# Altium schematic symbol library CD4043BD.SchLib: 2 symbols
Pins are listed as number, name and electrical type; pins without a type are passive.

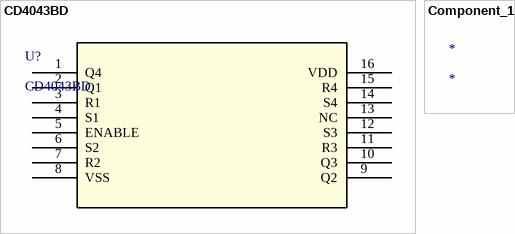
[diagram p0: symbols CD4043BD to Component_1]

## CD4043BD
designator U?
CMOS Quad NOR R/S Latch with 3-State Outputs 16-SOIC -55 to 125; Manufacturer_Name: Texas Instruments; Copyright: Copyright (C) 2026 Ultra Librarian. All rights reserved.; Manufacturer_Part_Number: CD4043BD; Datasheet: https://www.ti.com/lit/gpn/cd4043b; RefDes: RefDes; Type: Type
footprint D16
pins: 1 Q4, 2 Q1, 3 R1, 4 S1, 5 ENABLE, 6 S2, 7 R2, 8 VSS (power), 9 Q2, 10 Q3, 11 R3, 12 S3, 13 NC, 14 S4, 15 R4, 16 VDD (power)

## Component_1
designator *